# Altium integrated library NEC Peripheral GPIB Interface Controller.IntLib: 2 symbols
Pins are listed as number, name and electrical type; pins without a type are passive.

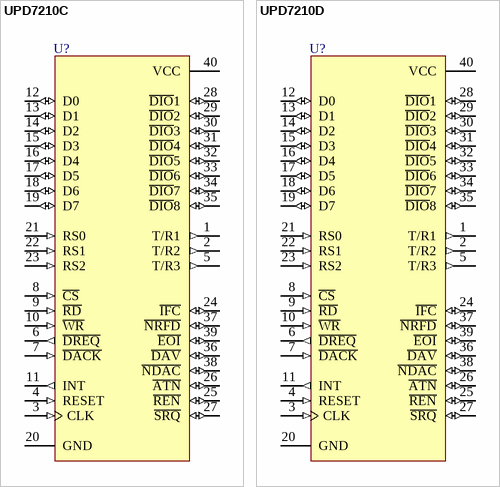
[diagram p0: symbols UPD7210C to UPD7210D]

## UPD7210C
designator U?
Intelligent GPIB Interface Controller; Published: 8-Jun-2000; LatestRevisionDate: 17-Jul-2002; LatestRevisionNote: Re-released for DXP Platform.; DatasheetVersion: 1984; PackageVersion: 1984; PackageReference: PDIP40; Publisher: Altium Limited; PackageDescription: DIP; 40 Leads; Row Spacing 15.24 mm; Pitch 2.54 mm; ComponentLink1Description: Manufacturer Link; ComponentLink1URL: http://www.necel.com/
footprint PDIP40 (DIP; 40 Leads; Row Spacing 15.24 mm; Pitch 2.54 mm)
pins: 1 T/R1 (out), 2 T/R2 (out), 3 CLK (in), 4 RESET (in), 5 T/R3 (out), 6 ~{DREQ} (out), 7 ~{DACK} (in), 8 ~{CS} (in), 9 ~{RD} (in), 10 ~{WR} (in), 11 INT (out), 12 D0 (io), 13 D1 (io), 14 D2 (io), 15 D3 (io), 16 D4 (io), 17 D5 (io), 18 D6 (io), 19 D7 (io), 20 GND (power), 21 RS0 (in), 22 RS1 (in), 23 RS2 (in), 24 ~{IFC} (io), 25 ~{REN} (io), 26 ~{ATN} (io), 27 ~{SRQ} (io), 28 ~{DIO}1 (io), 29 ~{DIO}2 (io), 30 ~{DIO}3 (io), 31 ~{DIO}4 (io), 32 ~{DIO}5 (io), 33 ~{DIO}6 (io), 34 ~{DIO}7 (io), 35 ~{DIO}8 (io), 36 ~{DAV} (io), 37 ~{NRFD} (io), 38 ~{NDAC} (io), 39 ~{EOI} (io), 40 VCC (power)

## UPD7210D
designator U?
Intelligent GPIB Interface Controller; Published: 8-Jun-2000; LatestRevisionDate: 17-Jul-2002; LatestRevisionNote: Re-released for DXP Platform.; DatasheetVersion: 1984; PackageVersion: 1984; PackageReference: CDIP40D; Publisher: Altium Limited; PackageDescription: DIP; 40 Leads; Row Spacing 15.24 mm; Pitch 2.54 mm; ComponentLink1Description: Manufacturer Link; ComponentLink1URL: http://www.necel.com/
footprint CDIP40D (DIP; 40 Leads; Row Spacing 15.24 mm; Pitch 2.54 mm)
pins: 1 T/R1 (out), 2 T/R2 (out), 3 CLK (in), 4 RESET (in), 5 T/R3 (out), 6 ~{DREQ} (out), 7 ~{DACK} (in), 8 ~{CS} (in), 9 ~{RD} (in), 10 ~{WR} (in), 11 INT (out), 12 D0 (io), 13 D1 (io), 14 D2 (io), 15 D3 (io), 16 D4 (io), 17 D5 (io), 18 D6 (io), 19 D7 (io), 20 GND (power), 21 RS0 (in), 22 RS1 (in), 23 RS2 (in), 24 ~{IFC} (io), 25 ~{REN} (io), 26 ~{ATN} (io), 27 ~{SRQ} (io), 28 ~{DIO}1 (io), 29 ~{DIO}2 (io), 30 ~{DIO}3 (io), 31 ~{DIO}4 (io), 32 ~{DIO}5 (io), 33 ~{DIO}6 (io), 34 ~{DIO}7 (io), 35 ~{DIO}8 (io), 36 ~{DAV} (io), 37 ~{NRFD} (io), 38 ~{NDAC} (io), 39 ~{EOI} (io), 40 VCC (power)